# Altium integrated library ESD диод.IntLib: 1 symbol
Pins are listed as number, name and electrical type; pins without a type are passive.

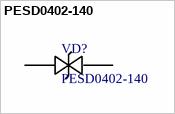
[diagram p0: symbol PESD0402-140]

## PESD0402-140
designator VD?
40V Clamp - Ipp Tvs Diode Surface Mount 0402; Типоразмер: 0402; Емкость: 0.25 пФ; Тип: ESD защита
footprint DIO_PESD0402-140
pins: 1, 2